# EAGLE library part CRA12 (library STEMTera)
Vishay CRA12E, CRA12S Thick Film Resistor Array
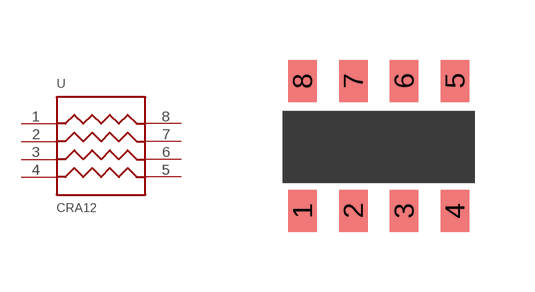
[diagram p10: symbol with the pads of CRA12E; footprint CRA12E]

Designator prefix -

## CRA12  [CRA12E]
1  1  pas
2  2  pas
3  3  pas
4  4  pas
5  5  pas
6  6  pas
7  7  pas
8  8  pas

## Footprint CRA12E (pad centres in mm)
Vishay CRA12E Resistor Array
smd 0.71 x 1.05: 1 0,0; 2 1.27,0; 3 2.54,0; 4 3.81,0; 5 3.81,3.25; 6 2.54,3.25; 7 1.27,3.25; 8 0,3.25